# EAGLE library part SIM5300EA (library dooba)
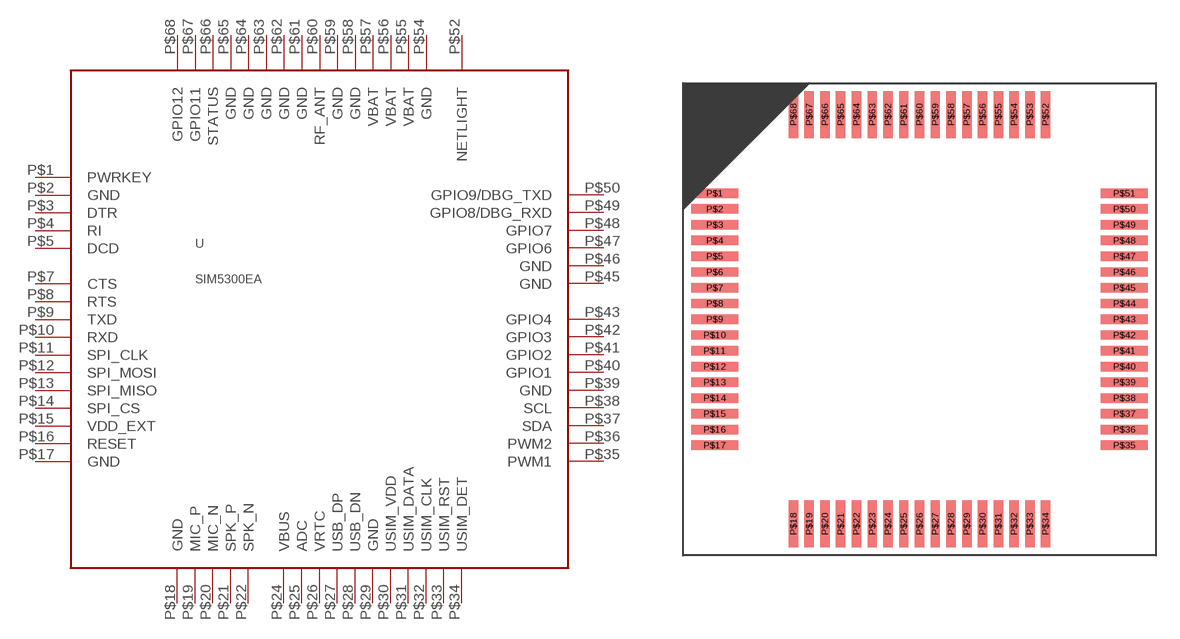
[diagram p43: symbol with the pads of SIM5300; footprint SIM5300]

Designator prefix U

## SIM5300EA  [SIM5300]
P$1  PWRKEY
P$2  GND
P$3  DTR
P$4  RI
P$5  DCD
P$7  CTS
P$8  RTS
P$9  TXD
P$10  RXD
P$11  SPI_CLK
P$12  SPI_MOSI
P$13  SPI_MISO
P$14  SPI_CS
P$15  VDD_EXT
P$16  RESET
P$17  GND
P$18  GND
P$19  MIC_P
P$20  MIC_N
P$21  SPK_P
P$22  SPK_N
P$24  VBUS
P$25  ADC
P$26  VRTC
P$27  USB_DP
P$28  USB_DN
P$29  GND
P$30  USIM_VDD
P$31  USIM_DATA
P$32  USIM_CLK
P$33  USIM_RST
P$34  USIM_DET
P$35  PWM1
P$36  PWM2
P$37  SDA
P$38  SCL
P$39  GND
P$40  GPIO1
P$41  GPIO2
P$42  GPIO3
P$43  GPIO4
P$45  GND
P$46  GND
P$47  GPIO6
P$48  GPIO7
P$49  GPIO8/DBG_RXD
P$50  GPIO9/DBG_TXD
P$52  NETLIGHT
P$54  GND
P$55  VBAT
P$56  VBAT
P$57  VBAT
P$58  GND
P$59  GND
P$60  RF_ANT
P$61  GND
P$62  GND
P$63  GND
P$64  GND
P$65  GND
P$66  STATUS
P$67  GPIO11
P$68  GPIO12

## Footprint SIM5300 (pad centres in mm)
smd 3 x 0.6: P$1 -13,8; P$2 -13,7; P$3 -13,6; P$4 -13,5; P$5 -13,4; P$6 -13,3; P$7 -13,2; P$8 -13,1; P$9 -13,0; P$10 -13,-1; P$11 -13,-2; P$12 -13,-3; P$13 -13,-4; P$14 -13,-5; P$15 -13,-6; P$16 -13,-7; P$17 -13,-8; P$35 13,-8; P$36 13,-7; P$37 13,-6; P$38 13,-5; P$39 13,-4; P$40 13,-3; P$41 13,-2; P$42 13,-1; P$43 13,0; P$44 13,1; P$45 13,2; P$46 13,3; P$47 13,4; P$48 13,5; P$49 13,6; P$50 13,7; P$51 13,8
smd 0.6 x 3: P$18 -8,-13; P$19 -7,-13; P$20 -6,-13; P$21 -5,-13; P$22 -4,-13; P$23 -3,-13; P$24 -2,-13; P$25 -1,-13; P$26 0,-13; P$27 1,-13; P$28 2,-13; P$29 3,-13; P$30 4,-13; P$31 5,-13; P$32 6,-13; P$33 7,-13; P$34 8,-13; P$52 8,13; P$53 7,13; P$54 6,13; P$55 5,13; P$56 4,13; P$57 3,13; P$58 2,13; P$59 1,13; P$60 0,13; P$61 -1,13; P$62 -2,13; P$63 -3,13; P$64 -4,13; P$65 -5,13; P$66 -6,13; P$67 -7,13; P$68 -8,13